# EAGLE library part CY7C4251 (library memories)
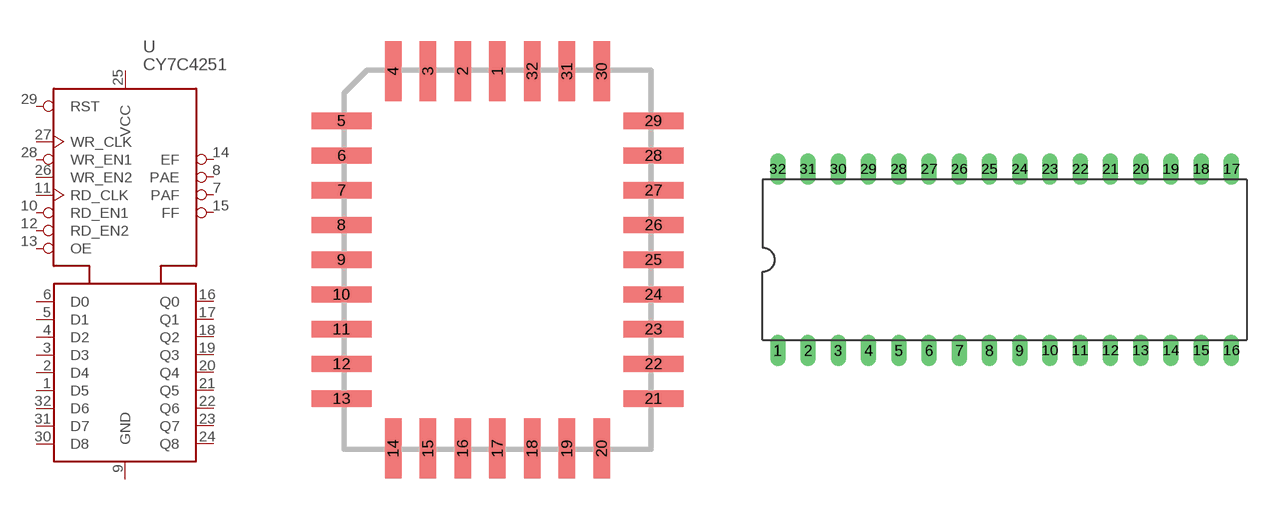
[diagram p0: symbol with the pads of PLCC32; footprints PLCC32, DIL32]

Designator prefix U

## CY7C4251PLCC (PACKAGE: PLCC32)  [PLCC32]
1  D5
2  D4
3  D3
4  D2
5  D1
6  D0
7  PAF
8  PAE
9  GND
10  RD_EN1
11  RD_CLK
12  RD_EN2
13  OE
14  EF
15  FF
16  Q0
17  Q1
18  Q2
19  Q3
20  Q4
21  Q5
22  Q6
23  Q7
24  Q8
25  VCC
26  WR_EN2
27  WR_CLK
28  WR_EN1
29  RST
30  D8
31  D7
32  D6

## CY7C4251DIP (PACKAGE: DIL32)  [DIL32]
Pads as for PLCC32

## CY7C4251PLCC-S (PACKAGE: PLCC32-SOCKET)  [PLCC32-SOCKET]
Pads as for PLCC32

## CY7C4251QFP (PACKAGE: LQFP32)  [LQFP32]
1  D1
2  D0
3  PAF
4  PAE
5  GND
6  RD_EN1
7  RD_CLK
8  RD_EN2
9  OE
10  EF
11  FF
12  Q0
13  Q1
14  Q2
15  Q3
16  Q4
17  Q5
18  Q6
19  Q7
20  Q8
21  VCC
22  WR_EN2
23  WR_CLK
24  WR_EN1
25  RST
26  D8
27  D7
28  D6
29  D5
30  D4
31  D3
32  D2

## Footprint PLCC32 (pad centres in mm)
smd 0.6 x 2.2: 1 0,6.9; 2 -1.27,6.9; 3 -2.54,6.9; 4 -3.81,6.9; 14 -3.81,-6.9; 15 -2.54,-6.9; 16 -1.27,-6.9; 17 0,-6.9; 18 1.27,-6.9; 19 2.54,-6.9; 20 3.81,-6.9; 30 3.81,6.9; 31 2.54,6.9; 32 1.27,6.9
smd 2.2 x 0.6: 5 -5.7,5.08; 6 -5.7,3.81; 7 -5.7,2.54; 8 -5.7,1.27; 9 -5.7,0; 10 -5.7,-1.27; 11 -5.7,-2.54; 12 -5.7,-3.81; 13 -5.7,-5.08; 21 5.7,-5.08; 22 5.7,-3.81; 23 5.7,-2.54; 24 5.7,-1.27; 25 5.7,0; 26 5.7,1.27; 27 5.7,2.54; 28 5.7,3.81; 29 5.7,5.08

## Footprint DIL32 (pad centres in mm)
drill 0.813 long: 1 -19.05,-7.62; 2 -16.51,-7.62; 3 -13.97,-7.62; 4 -11.43,-7.62; 5 -8.89,-7.62; 6 -6.35,-7.62; 7 -3.81,-7.62; 8 -1.27,-7.62; 9 1.27,-7.62; 10 3.81,-7.62; 11 6.35,-7.62; 12 8.89,-7.62; 13 11.43,-7.62; 14 13.97,-7.62; 15 16.51,-7.62; 16 19.05,-7.62; 17 19.05,7.62; 18 16.51,7.62; 19 13.97,7.62; 20 11.43,7.62; 21 8.89,7.62; 22 6.35,7.62; 23 3.81,7.62; 24 1.27,7.62; 25 -1.27,7.62; 26 -3.81,7.62; 27 -6.35,7.62; 28 -8.89,7.62; 29 -11.43,7.62; 30 -13.97,7.62; 31 -16.51,7.62; 32 -19.05,7.62

## Footprint PLCC32-SOCKET (pad centres in mm)
drill 0.813: 1 1.27,5.08
drill 0.813 octagon: 2 -1.27,7.62; 3 -1.27,5.08; 4 -3.81,7.62; 5 -6.35,5.08; 6 -3.81,5.08; 7 -6.35,2.54; 8 -3.81,2.54; 9 -6.35,0; 10 -3.81,0; 11 -6.35,-2.54; 12 -3.81,-2.54; 13 -6.35,-5.08; 14 -3.81,-7.62; 15 -3.81,-5.08; 16 -1.27,-7.62; 17 -1.27,-5.08; 18 1.27,-7.62; 19 1.27,-5.08; 20 3.81,-7.62; 21 6.35,-5.08; 22 3.81,-5.08; 23 6.35,-2.54; 24 3.81,-2.54; 25 6.35,0; 26 3.81,0; 27 6.35,2.54; 28 3.81,2.54; 29 6.35,5.08; 30 3.81,7.62; 31 3.81,5.08; 32 1.27,7.62

## Footprint LQFP32 (pad centres in mm)
smd 0.5 x 2: 1 -2.8,-4.3; 2 -2,-4.3; 3 -1.2,-4.3; 4 -0.4,-4.3; 5 0.4,-4.3; 6 1.2,-4.3; 7 2,-4.3; 8 2.8,-4.3; 17 2.8,4.3; 18 2,4.3; 19 1.2,4.3; 20 0.4,4.3; 21 -0.4,4.3; 22 -1.2,4.3; 23 -2,4.3; 24 -2.8,4.3
smd 2 x 0.5: 9 4.3,-2.8; 10 4.3,-2; 11 4.3,-1.2; 12 4.3,-0.4; 13 4.3,0.4; 14 4.3,1.2; 15 4.3,2; 16 4.3,2.8; 25 -4.3,2.8; 26 -4.3,2; 27 -4.3,1.2; 28 -4.3,0.4; 29 -4.3,-0.4; 30 -4.3,-1.2; 31 -4.3,-2; 32 -4.3,-2.8